# Altium schematic symbol library PSoC_4100_BLE.SchLib: 1 symbol
Pins are listed as number, name and electrical type; pins without a type are passive.

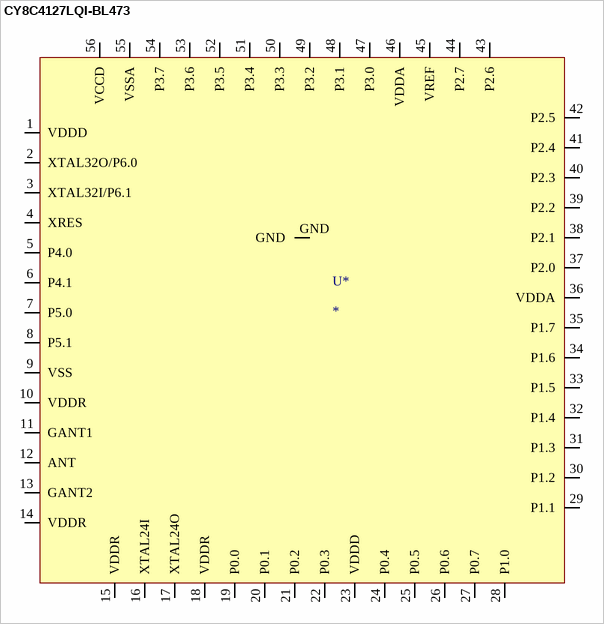
[diagram p0: symbol CY8C4127LQI-BL473]

## CY8C4127LQI-BL473
designator U*
footprint CY8C4127LQI-BL473
pins: 1 VDDD, 2 XTAL32O/P6.0, 3 XTAL32I/P6.1, 4 XRES, 5 P4.0, 6 P4.1, 7 P5.0, 8 P5.1, 9 VSS, 10 VDDR, 11 GANT1, 12 ANT, 13 GANT2, 14 VDDR, 15 VDDR, 16 XTAL24I, 17 XTAL24O, 18 VDDR, 19 P0.0, 20 P0.1, 21 P0.2, 22 P0.3, 23 VDDD, 24 P0.4, 25 P0.5, 26 P0.6, 27 P0.7, 28 P1.0, 29 P1.1, 30 P1.2, 31 P1.3, 32 P1.4, 33 P1.5, 34 P1.6, 35 P1.7, 36 VDDA, 37 P2.0, 38 P2.1, 39 P2.2, 40 P2.3, 41 P2.4, 42 P2.5, 43 P2.6, 44 P2.7, 45 VREF, 46 VDDA, 47 P3.0, 48 P3.1, 49 P3.2, 50 P3.3, 51 P3.4, 52 P3.5, 53 P3.6, 54 P3.7, 55 VSSA, 56 VCCD, GND